# Altium footprint library MOLEX_430450812.PcbLib: 1 footprints
Each footprint in its own frame and in the unit in brackets; x right, y up, seen from the top. Pads: shape width x height; smd on the part's side, far side on the other; paste and mask are expansions set on the pad; w line width, h text height; cw(c..) or ccw(c..) is an arc to the next point about the centre after c.
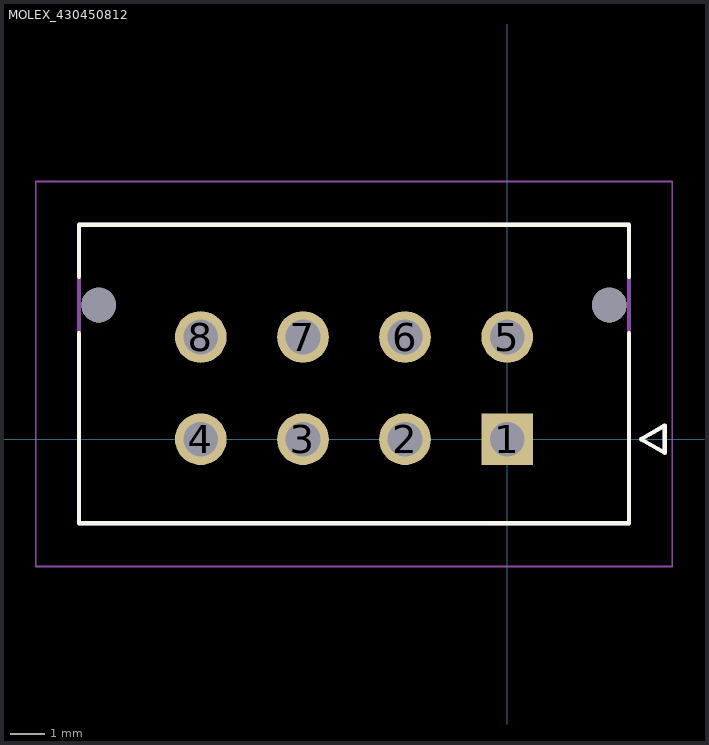
[diagram p0: the footprint, top view; thin cyan lines are the x and y axes]

## MOLEX_430450812 [mm]
height 9.91
pads (10):
  rect 1.52x1.52 / inner round 1.52 / far side rect 1.52x1.52 hole 1.02 mask+0.076: 1(0,0)
  round 1.52 hole 1.02 mask+0.076: 2(-3,0) 3(-6,0) 4(-9,0) 5(0,3) 6(-3,3) 7(-6,3) 8(-9,3)
  round 1.02 hole 1.02 unplated mask+0.076: ""(-12,3.94) ""(3,3.94)
Top Overlay:
  lines w0.127: -12.575,3.11 -12.575,-2.47 3.575,-2.47 3.575,3.11 ; -12.575,4.77 -12.575,6.3 3.575,6.3 3.575,4.77 ; 3.93,0 4.63,0.4 4.63,-0.4 3.93,0
Mechanical 13:
  lines w0.127: -12.575,-2.47 3.575,-2.47 3.575,6.3 -12.575,6.3 -12.575,-2.47 ; 3.93,0 4.63,0.4 4.63,-0.4 3.93,0
  text "PTH D1.02 +/- 0.05" at -12.73,-5.47 h0.5
  text "NPTH D1.02 +/- 0.05" at -12.73,-6.24 h0.5
Mechanical 15:
  lines w0.05: -13.845,-3.74 4.845,-3.74 4.845,7.57 -13.845,7.57 -13.845,-3.74